# Altium schematic symbol library Discrete_Resistors_Ceramic_GOST.SchLib: 4 symbols
Pins are listed as number, name and electrical type; pins without a type are passive.

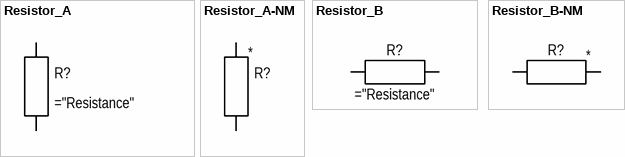
[diagram p0: symbols Resistor_A to Resistor_B-NM]

## Resistor_A
designator R?
pins: 1, 2

## Resistor_A-NM
designator R?  (no BOM)
pins: 1, 2

## Resistor_B
designator R?
pins: 1, 2

## Resistor_B-NM
designator R?  (no BOM)
pins: 1, 2